# Altium schematic symbol library Driver_LED.SchLib: 84 symbols (part 1 of 2)
Pins are listed as number, name and electrical type; pins without a type are passive.

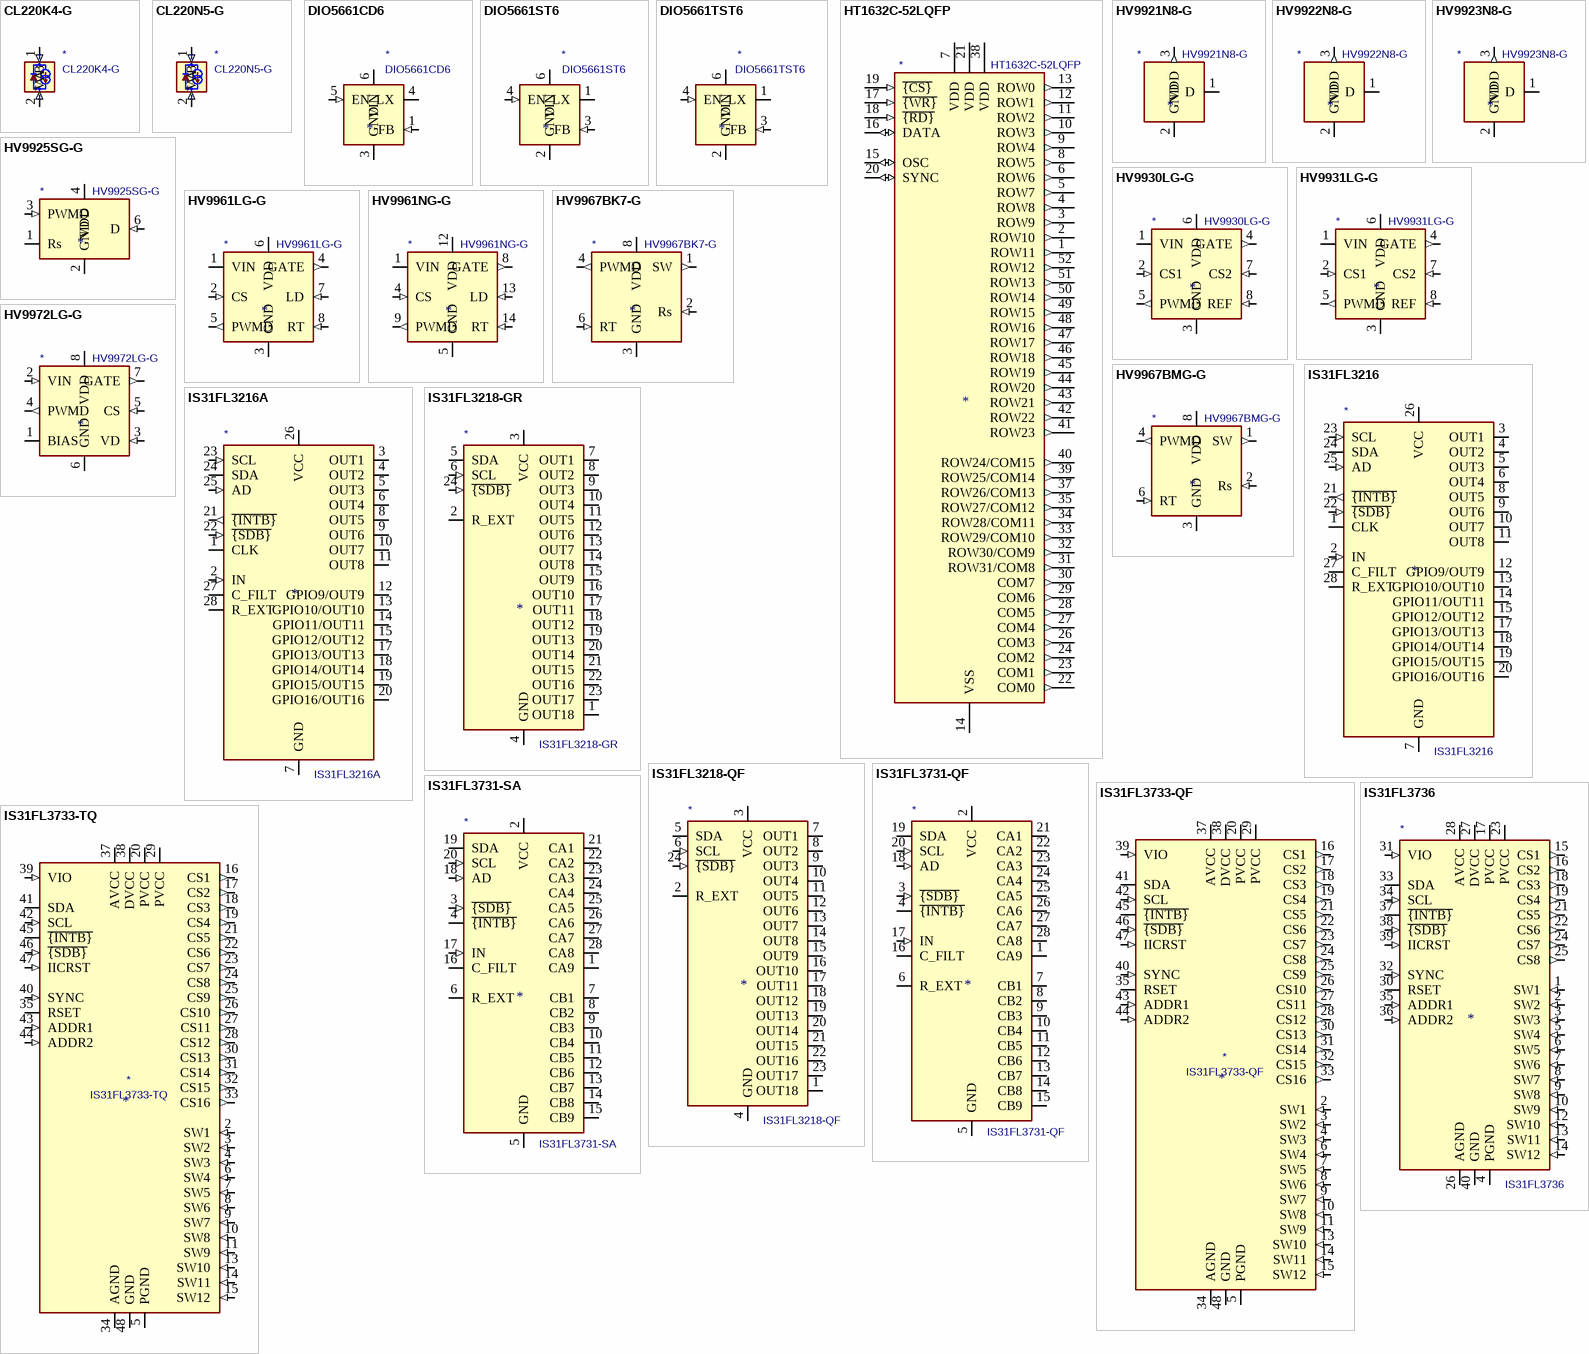
[diagram p0: symbols CL220K4-G to IS31FL3736]

## CL220K4-G
designator *  value CL220K4-G
ki_keywords: Constant Current LED Driver IC; ki_description: Temperature Compensated Constant Current LED IC, D-PAK; ki_fp_filters: TO?252*; Footprint: Package_TO_SOT_SMD:TO-252-2; Supplier: http://ww1.microchip.com/downloads/en/DeviceDoc/20005413A.pdf
footprint TO-252-2
pins: 1 VA (in), 2 VB (in), 3 NC (in) hidden

## CL220N5-G
designator *  value CL220N5-G
ki_keywords: Constant Current LED Driver IC; ki_description: Temperature Compensated Constant Current LED IC, TO-220; ki_fp_filters: TO?220*; Footprint: Package_TO_SOT_THT:TO-220-3_Vertical; Supplier: http://ww1.microchip.com/downloads/en/DeviceDoc/20005413A.pdf
footprint TO-220-3_Vertical
pins: 1 VA (in), 2 VB (in)

## DIO5661CD6
designator *  value DIO5661CD6
ki_keywords: LED driver single; ki_description: 37V Step-up LED driver with PWM, 2.7-5.5Vin, 1.3A Iout max, DFN-6; ki_fp_filters: DFN*1EP*2x2mm*P0.65mm*; Footprint: Package_DFN_QFN:DFN-6-1EP_2x2mm_P0.65mm_EP1x1.6mm; Supplier: http://www.dioo.com/uploads/product/20190311/e6c7f30c0fbe92fbfa6965c8ef1c5b19.pdf
footprint DFN-6-1EP_2x2mm_P0.65mm_EP1x1.6mm
pins: 1 FB (in), 2 (in) hidden, 3 GND (power), 4 LX (oc), 5 EN (in), 6 VIN (power), 7 GND hidden

## DIO5661ST6
designator *  value DIO5661ST6
ki_keywords: LED driver single; ki_description: 37V Step-up LED driver with PWM, 2.7-5.5Vin, 1.3A Iout max, SOT23-6; ki_fp_filters: SOT?23*; Footprint: Package_TO_SOT_SMD:SOT-23-6; Supplier: http://www.dioo.com/uploads/product/20190311/e6c7f30c0fbe92fbfa6965c8ef1c5b19.pdf
footprint SOT-23-6
pins: 1 LX (oc), 2 GND (power), 3 FB (in), 4 EN (in), 5 (in) hidden, 6 VIN (power)

## DIO5661TST6
designator *  value DIO5661TST6
ki_keywords: LED driver single; ki_description: 37V Step-up LED driver with PWM, 2.7-5.5Vin, 1.3A Iout max, TSOT23-6; ki_fp_filters: TSOT?23*; Footprint: Package_TO_SOT_SMD:TSOT-23-6; Supplier: http://www.dioo.com/uploads/product/20190311/e6c7f30c0fbe92fbfa6965c8ef1c5b19.pdf
footprint TSOT-23-6
pins: 1 LX (oc), 2 GND (power), 3 FB (in), 4 EN (in), 5 (in) hidden, 6 VIN (power)

## HT1632C-52LQFP
designator *  value HT1632C-52LQFP
ki_keywords: LED Matrix Driver; ki_description: LED Matrix Driver, 32×8 or 24×16, 52-LQFP; ki_fp_filters: LQFP*14x14mm*P1mm*; Footprint: Package_QFP:LQFP-52_14x14mm_P1mm; Supplier: http://www.holtek.com/documents/10179/116711/HT1632Cv170.pdf
footprint LQFP-52_14x14mm_P1mm
pins: 1 ROW11 (out), 2 ROW10 (out), 3 ROW9 (out), 4 ROW8 (out), 5 ROW7 (out), 6 ROW6 (out), 7 VDD (power), 8 ROW5 (out), 9 ROW4 (out), 10 ROW3 (out), 11 ROW2 (out), 12 ROW1 (out), 13 ROW0 (out), 14 VSS (power), 15 OSC (io), 16 DATA (io), 17 ~{{WR}} (in), 18 ~{{RD}} (in), 19 ~{{CS}} (in), 20 SYNC (io), 21 VDD (power), 22 COM0 (out), 23 COM1 (out), 24 COM2 (out), 25 VSS hidden, 26 COM3 (out), 27 COM4 (out), 28 COM5 (out), 29 COM6 (out), 30 COM7 (out), 31 ROW31/COM8 (out), 32 ROW30/COM9 (out), 33 ROW29/COM10 (out), 34 ROW28/COM11 (out), 35 ROW27/COM12 (out), 36 VSS hidden, 37 ROW26/COM13 (out), 38 VDD (power), 39 ROW25/COM14 (out), 40 ROW24/COM15 (out), 41 ROW23 (out), 42 ROW22 (out), 43 ROW21 (out), 44 ROW20 (out), 45 ROW19 (out), 46 ROW18 (out), 47 ROW17 (out), 48 ROW16 (out), 49 ROW15 (out), 50 ROW14 (out), 51 ROW13 (out), 52 ROW12 (out)

## HV9921N8-G
designator *  value HV9921N8-G
ki_keywords: CC LED Driver High Voltage; ki_description: 3pin Constant Current 20mA LED Driver, SOT89; ki_fp_filters: SOT?89*; Footprint: Package_TO_SOT_SMD:SOT-89-3; Supplier: http://ww1.microchip.com/downloads/en/DeviceDoc/20005311A.pdf
footprint SOT-89-3
pins: 1 D, 2 GND (power), 3 VDD (out)

## HV9922N8-G
designator *  value HV9922N8-G
ki_keywords: CC LED Driver High Voltage; ki_description: 3pin Constant Current 50mA LED Driver, SOT89; ki_fp_filters: SOT?89*; Footprint: Package_TO_SOT_SMD:SOT-89-3; Supplier: http://ww1.microchip.com/downloads/en/DeviceDoc/20005311A.pdf
footprint SOT-89-3
pins: 1 D, 2 GND (power), 3 VDD (out)

## HV9923N8-G
designator *  value HV9923N8-G
ki_keywords: CC LED Driver High Voltage; ki_description: 3pin Constant Current 30mA LED Driver, SOT89; ki_fp_filters: SOT?89*; Footprint: Package_TO_SOT_SMD:SOT-89-3; Supplier: http://ww1.microchip.com/downloads/en/DeviceDoc/20005311A.pdf
footprint SOT-89-3
pins: 1 D, 2 GND (power), 3 VDD (out)

## HV9925SG-G
designator *  value HV9925SG-G
ki_keywords: Programmable Current LED Lamp Driver High Voltage; ki_description: Programmable Current LED Lamp Driver, SO8 w/Heat Slug; ki_fp_filters: SOIC*3.9x4.9mm*P1.27mm*; Footprint: Package_SO:SOIC-8_3.9x4.9mm_P1.27mm; Supplier: http://ww1.microchip.com/downloads/en/DeviceDoc/hv9925.pdf
footprint SOIC-8_3.9x4.9mm_P1.27mm
pins: 1 Rs, 2 GND (power), 3 PWMD (in), 4 VDD (power), 5 NC (in) hidden, 6 D (in), 7 D (in) hidden, 8 D (in) hidden

## HV9930LG-G
designator *  value HV9930LG-G
ki_keywords: Buck-Boost LED Lamp Driver High Voltage; ki_description: Boost-Buck LED Lamp Driver, SO8; ki_fp_filters: SOIC*3.9x4.9mm*P1.27mm*; Footprint: Package_SO:SOIC-8_3.9x4.9mm_P1.27mm; Supplier: http://ww1.microchip.com/downloads/en/DeviceDoc/hv9930.pdf
footprint SOIC-8_3.9x4.9mm_P1.27mm
pins: 1 VIN (power), 2 CS1 (in), 3 GND (power), 4 GATE (out), 5 PWMD (out), 6 VDD (power), 7 CS2 (in), 8 REF (in)

## HV9931LG-G
designator *  value HV9931LG-G
ki_keywords: Buck-Boost LED Lamp Driver High Voltage PFC; ki_description: PFC Boost-Buck LED Lamp Driver, SO8; ki_fp_filters: SOIC*3.9x4.9mm*P1.27mm*; Footprint: Package_SO:SOIC-8_3.9x4.9mm_P1.27mm; Supplier: http://ww1.microchip.com/downloads/en/DeviceDoc/hv9931.pdf
footprint SOIC-8_3.9x4.9mm_P1.27mm
pins: 1 VIN (power), 2 CS1 (in), 3 GND (power), 4 GATE (out), 5 PWMD (out), 6 VDD (power), 7 CS2 (in), 8 REF (in)

## HV9961LG-G
designator *  value HV9961LG-G
ki_keywords: Buck LED Lamp Driver High Voltage Average CC; ki_description: Buck LED Lamp Driver Average-Mode Constant Current, SO8; ki_fp_filters: SOIC*3.9x4.9mm*P1.27mm*; Footprint: Package_SO:SOIC-8_3.9x4.9mm_P1.27mm; Supplier: http://ww1.microchip.com/downloads/en/DeviceDoc/20005588A.pdf
footprint SOIC-8_3.9x4.9mm_P1.27mm
pins: 1 VIN (power), 2 CS (in), 3 GND (power), 4 GATE (out), 5 PWMD (out), 6 VDD (power), 7 LD (in), 8 RT (in)

## HV9961NG-G
designator *  value HV9961NG-G
ki_keywords: Buck LED Lamp Driver High Voltage Average CC; ki_description: Buck LED Lamp Driver Average-Mode Constant Current, SO16; ki_fp_filters: SOIC*3.9x9.9mm*P1.27mm*; Footprint: Package_SO:SOIC-16_3.9x9.9mm_P1.27mm; Supplier: http://ww1.microchip.com/downloads/en/DeviceDoc/20005588A.pdf
footprint SOIC-16_3.9x9.9mm_P1.27mm
pins: 1 VIN (power), 2 NC (in) hidden, 3 NC (in) hidden, 4 CS (in), 5 GND (power), 6 NC (in) hidden, 7 NC (in) hidden, 8 GATE (out), 9 PWMD (out), 10 NC (in) hidden, 11 NC (in) hidden, 12 VDD (power), 13 LD (in), 14 RT (in), 15 NC (in) hidden, 16 NC (in) hidden

## HV9967BK7-G
designator *  value HV9967BK7-G
ki_keywords: Buck LED Lamp Driver Low Voltage Average CC; ki_description: Buck LED Lamp Driver Average-Mode Constant Current, DFN8 (3x3mm); ki_fp_filters: DFN*3x3mm*P0.65mm*EP1.55x2.4mm*; Footprint: Package_DFN_QFN:DFN-8-1EP_3x3mm_P0.65mm_EP1.55x2.4mm; Supplier: http://ww1.microchip.com/downloads/en/DeviceDoc/hv9967b.pdf
footprint DFN-8-1EP_3x3mm_P0.65mm_EP1.55x2.4mm
pins: 1 SW (out), 2 Rs (in), 3 GND (power), 4 PWMD (out), 6 RT (in), 7 GND hidden, 8 VDD (power), 9 GND hidden

## HV9967BMG-G
designator *  value HV9967BMG-G
ki_keywords: Buck LED Lamp Driver Low Voltage Average CC; ki_description: Buck LED Lamp Driver Average-Mode Constant Current, MSOP8; ki_fp_filters: MSOP*3x3mm*P0.65mm*; Footprint: Package_SO:MSOP-8_3x3mm_P0.65mm; Supplier: http://ww1.microchip.com/downloads/en/devicedoc/hv9967b.pdf
footprint MSOP-8_3x3mm_P0.65mm
pins: 1 SW (out), 2 Rs (in), 3 GND (power), 4 PWMD (out), 6 RT (in), 7 GND hidden, 8 VDD (power)

## HV9972LG-G
designator *  value HV9972LG-G
ki_keywords: Isolated LED Lamp Driver High Voltage CC; ki_description: Isolated LED Lamp Driver Constant Current, SO8; ki_fp_filters: SOIC*3.9x4.9mm*P1.27mm*; Footprint: Package_SO:SOIC-8_3.9x4.9mm_P1.27mm; Supplier: https://www.mouser.com/ds/2/268/HV9972-272498-1181261.pdf
footprint SOIC-8_3.9x4.9mm_P1.27mm
pins: 1 BIAS, 2 VIN (in), 3 VD (in), 4 PWMD (out), 5 CS (in), 6 GND (power), 7 GATE (out), 8 VDD (power)

## IS31FL3216
designator *  value IS31FL3216
ki_keywords: led pwm audio; ki_description: 16 channel LED controller with audio modulation mode, QFN-28; ki_fp_filters: QFN*1EP*4x4mm*P0.4mm*; Footprint: Package_DFN_QFN:QFN-28-1EP_4x4mm_P0.4mm_EP2.4x2.4mm; Supplier: http://www.issi.com/WW/pdf/IS31FL3216.pdf
footprint QFN-28-1EP_4x4mm_P0.4mm_EP2.4x2.4mm
pins: 1 CLK (io), 2 IN (in), 3 OUT1 (oc), 4 OUT2 (oc), 5 OUT3 (oc), 6 OUT4 (oc), 7 GND (power), 8 OUT5 (oc), 9 OUT6 (oc), 10 OUT7 (oc), 11 OUT8 (oc), 12 GPIO9/OUT9 (io), 13 GPIO10/OUT10 (io), 14 GPIO11/OUT11 (io), 15 GPIO12/OUT12 (io), 16 GND hidden, 17 GPIO13/OUT13 (io), 18 GPIO14/OUT14 (io), 19 GPIO15/OUT15 (io), 20 GPIO16/OUT16 (io), 21 ~{{INTB}} (out), 22 ~{{SDB}} (in), 23 SCL (in), 24 SDA (io), 25 AD (in), 26 VCC (power), 27 C_FILT, 28 R_EXT, 29 GND hidden

## IS31FL3216A
designator *  value IS31FL3216A
ki_keywords: led pwm audio; ki_description: 16 channel LED controller with audio modulation mode, QFN-28; ki_fp_filters: QFN*1EP*4x4mm*P0.4mm*; Footprint: Package_DFN_QFN:QFN-28-1EP_4x4mm_P0.4mm_EP2.4x2.4mm; Supplier: http://www.issi.com/WW/pdf/IS31FL3216A.pdf
footprint QFN-28-1EP_4x4mm_P0.4mm_EP2.4x2.4mm
pins: 1 CLK (io), 2 IN (in), 3 OUT1 (oc), 4 OUT2 (oc), 5 OUT3 (oc), 6 OUT4 (oc), 7 GND (power), 8 OUT5 (oc), 9 OUT6 (oc), 10 OUT7 (oc), 11 OUT8 (oc), 12 GPIO9/OUT9 (io), 13 GPIO10/OUT10 (io), 14 GPIO11/OUT11 (io), 15 GPIO12/OUT12 (io), 16 GND hidden, 17 GPIO13/OUT13 (io), 18 GPIO14/OUT14 (io), 19 GPIO15/OUT15 (io), 20 GPIO16/OUT16 (io), 21 ~{{INTB}} (out), 22 ~{{SDB}} (in), 23 SCL (in), 24 SDA (io), 25 AD (in), 26 VCC (power), 27 C_FILT, 28 R_EXT, 29 GND hidden

## IS31FL3218-GR
designator *  value IS31FL3218-GR
ki_keywords: led matrix pwm; ki_description: 18 LED matrix driver with 8-bit PWM, SOP-24; ki_fp_filters: SOP*7.5x15.4mm*P1.27mm*; Footprint: Package_SO:SOP-24_7.5x15.4mm_P1.27mm; Supplier: http://www.issi.com/WW/pdf/31FL3218.pdf
footprint SOP-24_7.5x15.4mm_P1.27mm
pins: 1 OUT18 (oc), 2 R_EXT, 3 VCC (power), 4 GND (power), 5 SDA (io), 6 SCL (in), 7 OUT1 (oc), 8 OUT2 (oc), 9 OUT3 (oc), 10 OUT4 (oc), 11 OUT5 (oc), 12 OUT6 (oc), 13 OUT7 (oc), 14 OUT8 (oc), 15 OUT9 (oc), 16 OUT10 (oc), 17 OUT11 (oc), 18 OUT12 (oc), 19 OUT13 (oc), 20 OUT14 (oc), 21 OUT15 (oc), 22 OUT16 (oc), 23 OUT17 (oc), 24 ~{{SDB}} (in)

## IS31FL3218-QF
designator *  value IS31FL3218-QF
ki_keywords: led matrix pwm; ki_description: 18 LED matrix driver with 8-bit PWM, QFN-24; ki_fp_filters: QFN*1EP*4x4mm*P0.5mm*; Footprint: Package_DFN_QFN:QFN-24-1EP_4x4mm_P0.5mm_EP2.7x2.7mm; Supplier: http://www.issi.com/WW/pdf/31FL3218.pdf
footprint QFN-24-1EP_4x4mm_P0.5mm_EP2.7x2.7mm
pins: 1 OUT18 (oc), 2 R_EXT, 3 VCC (power), 4 GND (power), 5 SDA (io), 6 SCL (in), 7 OUT1 (oc), 8 OUT2 (oc), 9 OUT3 (oc), 10 OUT4 (oc), 11 OUT5 (oc), 12 OUT6 (oc), 13 OUT7 (oc), 14 OUT8 (oc), 15 OUT9 (oc), 16 OUT10 (oc), 17 OUT11 (oc), 18 OUT12 (oc), 19 OUT13 (oc), 20 OUT14 (oc), 21 OUT15 (oc), 22 OUT16 (oc), 23 OUT17 (oc), 24 ~{{SDB}} (in), 25 GND hidden

## IS31FL3731-QF
designator *  value IS31FL3731-QF
ki_keywords: led matrix pwm; ki_description: 9x16 LED matrix driver with 8-bit PWM and breathing, QFN-28; ki_fp_filters: QFN*1EP*4x4mm*P0.4mm*; Footprint: Package_DFN_QFN:QFN-28-1EP_4x4mm_P0.4mm_EP2.3x2.3mm; Supplier: http://www.issi.com/WW/pdf/31FL3731.pdf
footprint QFN-28-1EP_4x4mm_P0.4mm_EP2.3x2.3mm
pins: 1 CA9 (io), 2 VCC (power), 3 ~{{SDB}} (in), 4 ~{{INTB}} (oc), 5 GND (power), 6 R_EXT, 7 CB1 (io), 8 CB2 (io), 9 CB3 (io), 10 CB4 (io), 11 CB5 (io), 12 CB6 (io), 13 CB7 (io), 14 CB8 (io), 15 CB9 (io), 16 C_FILT, 17 IN (in), 18 AD (in), 19 SDA (io), 20 SCL (in), 21 CA1 (io), 22 CA2 (io), 23 CA3 (io), 24 CA4 (io), 25 CA5 (io), 26 CA6 (io), 27 CA7 (io), 28 CA8 (io), 29 GND hidden

## IS31FL3731-SA
designator *  value IS31FL3731-SA
ki_keywords: led matrix pwm; ki_description: 9x16 LED matrix driver with 8-bit PWM and breathing, SSOP-28; ki_fp_filters: SSOP*5.3x10.2mm*P0.65mm*; Footprint: Package_SO:SSOP-28_5.3x10.2mm_P0.65mm; Supplier: http://www.issi.com/WW/pdf/31FL3731.pdf
footprint SSOP-28_5.3x10.2mm_P0.65mm
pins: 1 CA9 (io), 2 VCC (power), 3 ~{{SDB}} (in), 4 ~{{INTB}} (oc), 5 GND (power), 6 R_EXT, 7 CB1 (io), 8 CB2 (io), 9 CB3 (io), 10 CB4 (io), 11 CB5 (io), 12 CB6 (io), 13 CB7 (io), 14 CB8 (io), 15 CB9 (io), 16 C_FILT, 17 IN (in), 18 AD (in), 19 SDA (io), 20 SCL (in), 21 CA1 (io), 22 CA2 (io), 23 CA3 (io), 24 CA4 (io), 25 CA5 (io), 26 CA6 (io), 27 CA7 (io), 28 CA8 (io)

## IS31FL3733-QF
designator *  value IS31FL3733-QF
ki_keywords: led matrix pwm; ki_description: 12x16 LED matrix driver with 8-bit PWM and breathing, QFN-48; ki_fp_filters: QFN*1EP*6x6mm*P0.4mm*; Footprint: Package_DFN_QFN:QFN-48-1EP_6x6mm_P0.4mm_EP4.2x4.2mm; Supplier: http://www.issi.com/WW/pdf/IS31FL3733.pdf
footprint QFN-48-1EP_6x6mm_P0.4mm_EP4.2x4.2mm
pins: 1 NC (in) hidden, 2 SW1 (in), 3 SW2 (in), 4 SW3 (in), 5 PGND (power), 6 SW4 (in), 7 SW5 (in), 8 SW6 (in), 9 SW7 (in), 10 SW8 (in), 11 SW9 (in), 12 PGND hidden, 13 SW10 (in), 14 SW11 (in), 15 SW12 (in), 16 CS1 (out), 17 CS2 (out), 18 CS3 (out), 19 CS4 (out), 20 PVCC (power), 21 CS5 (out), 22 CS6 (out), 23 CS7 (out), 24 CS8 (out), 25 CS9 (out), 26 CS10 (out), 27 CS11 (out), 28 CS12 (out), 29 PVCC (power), 30 CS13 (out), 31 CS14 (out), 32 CS15 (out), 33 CS16 (out), 34 AGND (power), 35 RSET, 36 NC (in) hidden, 37 AVCC (power), 38 DVCC (power), 39 VIO (in), 40 SYNC (in), 41 SDA (io), 42 SCL (in), 43 ADDR1 (in), 44 ADDR2 (in), 45 ~{{INTB}} (oc), 46 ~{{SDB}} (in), 47 IICRST (in), 48 GND (power), 49 GND hidden

## IS31FL3733-TQ
designator *  value IS31FL3733-TQ
ki_keywords: led matrix pwm; ki_description: 12x16 LED matrix driver with 8-bit PWM and breathing, TQFP-48; ki_fp_filters: TQFP*1EP*7x7mm*P0.5mm*; Footprint: Package_QFP:TQFP-48-1EP_7x7mm_P0.5mm_EP5x5mm; Supplier: http://www.issi.com/WW/pdf/IS31FL3733.pdf
footprint TQFP-48-1EP_7x7mm_P0.5mm_EP5x5mm
pins: 1 NC (in) hidden, 2 SW1 (in), 3 SW2 (in), 4 SW3 (in), 5 PGND (power), 6 SW4 (in), 7 SW5 (in), 8 SW6 (in), 9 SW7 (in), 10 SW8 (in), 11 SW9 (in), 12 PGND hidden, 13 SW10 (in), 14 SW11 (in), 15 SW12 (in), 16 CS1 (out), 17 CS2 (out), 18 CS3 (out), 19 CS4 (out), 20 PVCC (power), 21 CS5 (out), 22 CS6 (out), 23 CS7 (out), 24 CS8 (out), 25 CS9 (out), 26 CS10 (out), 27 CS11 (out), 28 CS12 (out), 29 PVCC (power), 30 CS13 (out), 31 CS14 (out), 32 CS15 (out), 33 CS16 (out), 34 AGND (power), 35 RSET, 36 NC (in) hidden, 37 AVCC (power), 38 DVCC (power), 39 VIO (in), 40 SYNC (in), 41 SDA (io), 42 SCL (in), 43 ADDR1 (in), 44 ADDR2 (in), 45 ~{{INTB}} (oc), 46 ~{{SDB}} (in), 47 IICRST (in), 48 GND (power), 49 GND hidden

## IS31FL3736
designator *  value IS31FL3736
ki_keywords: led matrix pwm; ki_description: 12x8 LED matrix driver with 8-bit PWM and breathing, QFN-40; ki_fp_filters: QFN*1EP*5x5mm*P0.4mm*; Footprint: Package_DFN_QFN:QFN-40-1EP_5x5mm_P0.4mm_EP3.8x3.8mm; Supplier: http://www.issi.com/WW/pdf/31FL3736.pdf
footprint QFN-40-1EP_5x5mm_P0.4mm_EP3.8x3.8mm
pins: 1 SW1 (in), 2 SW2 (in), 3 SW3 (in), 4 PGND (power), 5 SW4 (in), 6 SW5 (in), 7 SW6 (in), 8 SW7 (in), 9 SW8 (in), 10 SW9 (in), 11 PGND hidden, 12 SW10 (in), 13 SW11 (in), 14 SW12 (in), 15 CS1 (out), 16 CS2 (out), 17 PVCC (power), 18 CS3 (out), 19 CS4 (out), 20 NC (in) hidden, 21 CS5 (out), 22 CS6 (out), 23 PVCC (power), 24 CS7 (out), 25 CS8 (out), 26 AGND (power), 27 DVCC (power), 28 AVCC (power), 29 NC (in) hidden, 30 RSET, 31 VIO (in), 32 SYNC (in), 33 SDA (io), 34 SCL (in), 35 ADDR1 (in), 36 ADDR2 (in), 37 ~{{INTB}} (oc), 38 ~{{SDB}} (in), 39 IICRST (in), 40 GND (power), 41 GND hidden

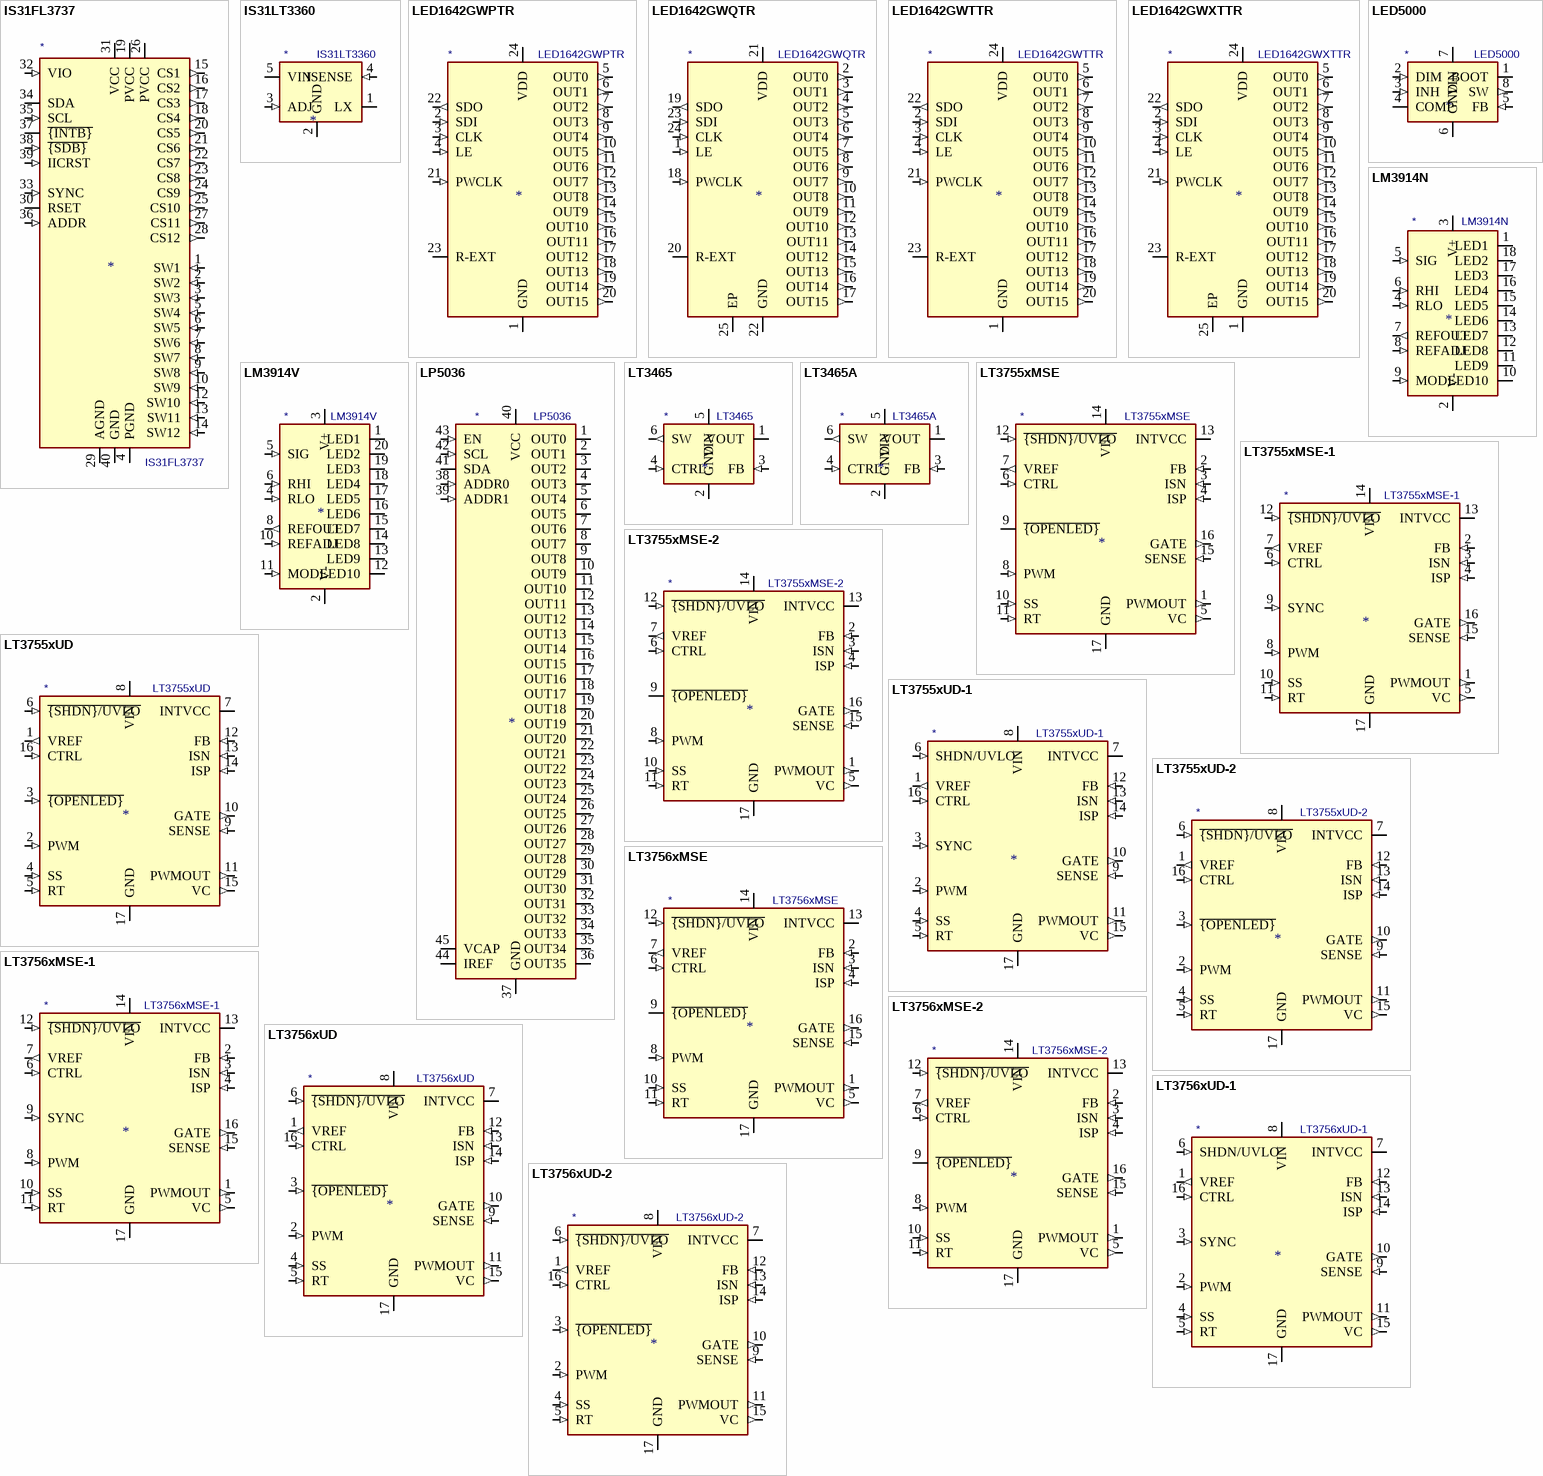
[diagram p1: symbols IS31FL3737 to LT3756xUD-2]

## IS31FL3737
designator *  value IS31FL3737
ki_keywords: led matrix pwm; ki_description: 12x12 LED matrix driver with 8-bit PWM and breathing, QFN-40; ki_fp_filters: QFN*1EP*5x5mm*P0.4mm*; Footprint: Package_DFN_QFN:QFN-40-1EP_5x5mm_P0.4mm_EP3.8x3.8mm; Supplier: http://www.issi.com/WW/pdf/31FL3737.pdf
footprint QFN-40-1EP_5x5mm_P0.4mm_EP3.8x3.8mm
pins: 1 SW1 (in), 2 SW2 (in), 3 SW3 (in), 4 PGND (power), 5 SW4 (in), 6 SW5 (in), 7 SW6 (in), 8 SW7 (in), 9 SW8 (in), 10 SW9 (in), 11 PGND hidden, 12 SW10 (in), 13 SW11 (in), 14 SW12 (in), 15 CS1 (out), 16 CS2 (out), 17 CS3 (out), 18 CS4 (out), 19 PVCC (power), 20 CS5 (out), 21 CS6 (out), 22 CS7 (out), 23 CS8 (out), 24 CS9 (out), 25 CS10 (out), 26 PVCC (power), 27 CS11 (out), 28 CS12 (out), 29 AGND (power), 30 RSET, 31 VCC (power), 32 VIO (in), 33 SYNC (in), 34 SDA (io), 35 SCL (in), 36 ADDR (in), 37 ~{{INTB}} (oc), 38 ~{{SDB}} (in), 39 IICRST (in), 40 GND (power), 41 GND hidden

## IS31LT3360
designator *  value IS31LT3360
ki_keywords: Switching LED driver; ki_description: Constant current  LED driver, internal switch, up to 40V/1.2A, SOT-89-5; ki_fp_filters: SOT?89*; Footprint: Package_TO_SOT_SMD:SOT-89-5; Supplier: http://www.issi.com/WW/pdf/31LT3360.pdf
footprint SOT-89-5
pins: 1 LX (oc), 2 GND (power), 3 ADJ (in), 4 ISENSE (in), 5 VIN (power)

## LED1642GWPTR
designator *  value LED1642GWPTR
ki_keywords: PWM LED driver error detection brightness QSOP-24; ki_description: 16-channel LED driver with error detection, current gain control and 12/16 bit PWM brightness control, QSOP-24; ki_fp_filters: QSOP*3.9x8.7mm*P0.635mm*; Footprint: Package_SO:QSOP-24_3.9x8.7mm_P0.635mm; Supplier: https://www.st.com/resource/en/datasheet/led1642gw.pdf
footprint QSOP-24_3.9x8.7mm_P0.635mm
pins: 1 GND (power), 2 SDI (in), 3 CLK (in), 4 LE (in), 5 OUT0 (out), 6 OUT1 (out), 7 OUT2 (out), 8 OUT3 (out), 9 OUT4 (out), 10 OUT5 (out), 11 OUT6 (out), 12 OUT7 (out), 13 OUT8 (out), 14 OUT9 (out), 15 OUT10 (out), 16 OUT11 (out), 17 OUT12 (out), 18 OUT13 (out), 19 OUT14 (out), 20 OUT15 (out), 21 PWCLK (in), 22 SDO (out), 23 R-EXT, 24 VDD (power)

## LED1642GWQTR
designator *  value LED1642GWQTR
ki_keywords: PWM LED driver error detection brightness QFN-24; ki_description: 16-channel LED driver with error detection, current gain control and 12/16 bit PWM brightness control, QFN-24; ki_fp_filters: QFN*1EP*4x4mm*P0.5mm*; Footprint: Package_DFN_QFN:QFN-24-1EP_4x4mm_P0.5mm_EP2.15x2.15mm; Supplier: https://www.st.com/resource/en/datasheet/led1642gw.pdf
footprint QFN-24-1EP_4x4mm_P0.5mm_EP2.15x2.15mm
pins: 1 LE (in), 2 OUT0 (out), 3 OUT1 (out), 4 OUT2 (out), 5 OUT3 (out), 6 OUT4 (out), 7 OUT5 (out), 8 OUT6 (out), 9 OUT7 (out), 10 OUT8 (out), 11 OUT9 (out), 12 OUT10 (out), 13 OUT11 (out), 14 OUT12 (out), 15 OUT13 (out), 16 OUT14 (out), 17 OUT15 (out), 18 PWCLK (in), 19 SDO (out), 20 R-EXT, 21 VDD (power), 22 GND (power), 23 SDI (in), 24 CLK (in), 25 EP

## LED1642GWTTR
designator *  value LED1642GWTTR
ki_keywords: PWM LED driver error detection brightness TSSOP-24; ki_description: 16-channel LED driver with error detection, current gain control and 12/16 bit PWM brightness control, TSSOP-24; ki_fp_filters: TSSOP*4.4x7.8mm*P0.65mm*; Footprint: Package_SO:TSSOP-24_4.4x7.8mm_P0.65mm; Supplier: https://www.st.com/resource/en/datasheet/led1642gw.pdf
footprint TSSOP-24_4.4x7.8mm_P0.65mm
pins: 1 GND (power), 2 SDI (in), 3 CLK (in), 4 LE (in), 5 OUT0 (out), 6 OUT1 (out), 7 OUT2 (out), 8 OUT3 (out), 9 OUT4 (out), 10 OUT5 (out), 11 OUT6 (out), 12 OUT7 (out), 13 OUT8 (out), 14 OUT9 (out), 15 OUT10 (out), 16 OUT11 (out), 17 OUT12 (out), 18 OUT13 (out), 19 OUT14 (out), 20 OUT15 (out), 21 PWCLK (in), 22 SDO (out), 23 R-EXT, 24 VDD (power)

## LED1642GWXTTR
designator *  value LED1642GWXTTR
ki_keywords: PWM LED driver error detection brightness TSSOP-24; ki_description: 16-channel LED driver with error detection, current gain control and 12/16 bit PWM brightness control, TSSOP-24; ki_fp_filters: TSSOP*1EP*4.4x7.8mm*P0.65mm*; Footprint: Package_SO:TSSOP-24-1EP_4.4x7.8mm_P0.65mm_EP3.2x5mm; Supplier: https://www.st.com/resource/en/datasheet/led1642gw.pdf
footprint TSSOP-24-1EP_4.4x7.8mm_P0.65mm_EP3.2x5mm
pins: 1 GND (power), 2 SDI (in), 3 CLK (in), 4 LE (in), 5 OUT0 (out), 6 OUT1 (out), 7 OUT2 (out), 8 OUT3 (out), 9 OUT4 (out), 10 OUT5 (out), 11 OUT6 (out), 12 OUT7 (out), 13 OUT8 (out), 14 OUT9 (out), 15 OUT10 (out), 16 OUT11 (out), 17 OUT12 (out), 18 OUT13 (out), 19 OUT14 (out), 20 OUT15 (out), 21 PWCLK (in), 22 SDO (out), 23 R-EXT, 24 VDD (power), 25 EP

## LED5000
designator *  value LED5000
ki_keywords: LED buck driver; ki_description: 3A monolithic step-down current source with dimming, HSOP-8; ki_fp_filters: HSOP*1EP*3.9x4.9mm*P1.27mm*; Footprint: Package_SO:HSOP-8-1EP_3.9x4.9mm_P1.27mm_EP2.41x3.1mm; Supplier: https://www.st.com/resource/en/datasheet/led5000.pdf
footprint HSOP-8-1EP_3.9x4.9mm_P1.27mm_EP2.41x3.1mm
pins: 1 BOOT, 2 DIM (in), 3 INH (in), 4 COMP, 5 FB (in), 6 GND (power), 7 VIN (power), 8 SW (out), 9 GND hidden

## LM3914N
designator *  value LM3914N
ki_keywords: LED driver bar dot; ki_description: 10 LED Dot/Bar Display Driver, DIP-18; ki_fp_filters: DIP*W7.62mm*; Footprint: Package_DIP:DIP-18_W7.62mm; Supplier: https://www.ti.com/lit/ds/symlink/lm3914.pdf
footprint DIP-18_W7.62mm
pins: 1 LED1 (oc), 2 V- (power), 3 V+ (power), 4 RLO (in), 5 SIG (in), 6 RHI (in), 7 REFOUT (out), 8 REFADJ (in), 9 MODE (in), 10 LED10 (oc), 11 LED9 (oc), 12 LED8 (oc), 13 LED7 (oc), 14 LED6 (oc), 15 LED5 (oc), 16 LED4 (oc), 17 LED3 (oc), 18 LED2 (oc)

## LM3914V
designator *  value LM3914V
ki_keywords: LED driver bar dot; ki_description: 10 LED Dot/Bar Display Driver, PLCC-20; ki_fp_filters: PLCC*; Footprint: Package_LCC:PLCC-20; Supplier: https://www.ti.com/lit/ds/symlink/lm3914.pdf
footprint PLCC-20
pins: 1 LED1 (oc), 2 V- (power), 3 V+ (power), 4 RLO (in), 5 SIG (in), 6 RHI (in), 7 NC (in) hidden, 8 REFOUT (out), 9 NC (in) hidden, 10 REFADJ (in), 11 MODE (in), 12 LED10 (oc), 13 LED9 (oc), 14 LED8 (oc), 15 LED7 (oc), 16 LED6 (oc), 17 LED5 (oc), 18 LED4 (oc), 19 LED3 (oc), 20 LED2 (oc)

## LP5036
designator *  value LP5036
ki_keywords: PWM LED driver I2C; ki_description: 36-Channel 12-Bit PWM Ultra-low Quiescent Current I2C RGB LED Driver; ki_fp_filters: VQFN?46?1EP?5x6mm?P0.4mm?EP2.8x3.8mm*; Footprint: Package_DFN_QFN:VQFN-46-1EP_5x6mm_P0.4mm_EP2.8x3.8mm; Supplier: http://www.ti.com/lit/ds/symlink/lp5036.pdf
footprint VQFN-46-1EP_5x6mm_P0.4mm_EP2.8x3.8mm
pins: 1 OUT0 (power), 2 OUT1 (power), 3 OUT2 (power), 4 OUT3 (power), 5 OUT4 (power), 6 OUT5 (power), 7 OUT6 (power), 8 OUT7 (power), 9 OUT8 (power), 10 OUT9 (power), 11 OUT10 (power), 12 OUT11 (power), 13 OUT12 (power), 14 OUT13 (power), 15 OUT14 (power), 16 OUT15 (power), 17 OUT16 (power), 18 OUT17 (power), 19 OUT18 (power), 20 OUT19 (power), 21 OUT20 (power), 22 OUT21 (power), 23 OUT22 (power), 24 OUT23 (power), 25 OUT24 (power), 26 OUT25 (power), 27 OUT26 (power), 28 OUT27 (power), 29 OUT28 (power), 30 OUT29 (power), 31 OUT30 (power), 32 OUT31 (power), 33 OUT32 (power), 34 OUT33 (power), 35 OUT34 (power), 36 OUT35 (power), 37 GND (power), 38 ADDR0 (in), 39 ADDR1 (in), 40 VCC (power), 41 SDA (io), 42 SCL (in), 43 EN (in), 44 IREF, 45 VCAP, 46 GND hidden, 47 GND hidden

## LT3465
designator *  value LT3465
ki_keywords: Switching LED driver; ki_description: 1.2MHz White LED Drivers with Built-in Schottky, ThinSOT-23-6; ki_fp_filters: TSOT?23*; Footprint: Package_TO_SOT_SMD:TSOT-23-6; Supplier: https://www.analog.com/media/en/technical-documentation/data-sheets/3465fa.pdf
footprint TSOT-23-6
pins: 1 VOUT (power), 2 GND (power), 3 FB (in), 4 CTRL (in), 5 VIN (power), 6 SW (out)

## LT3465A
designator *  value LT3465A
ki_keywords: Switching LED driver; ki_description: 2.4MHz White LED Drivers with Built-in Schottky in ThinSOT; ki_fp_filters: TSOT?23*; Footprint: Package_TO_SOT_SMD:TSOT-23-6; Supplier: https://www.analog.com/media/en/technical-documentation/data-sheets/3465fa.pdf
footprint TSOT-23-6
pins: 1 VOUT (power), 2 GND (power), 3 FB (in), 4 CTRL (in), 5 VIN (power), 6 SW (out)

## LT3755xMSE
designator *  value LT3755xMSE
ki_keywords: Boost Buck Buck-Boost SEPIC Flyback; ki_description: 40 Vin, 75 Vout, DC/DC LED Controllers, Hysteresis Open led Status pin, MSOP-16; ki_fp_filters: MSOP*3x4mm*P0.5mm*; Footprint: Package_SO:MSOP-16-1EP_3x4mm_P0.5mm_EP1.65x2.85mm; Supplier: https://www.analog.com/media/en/technical-documentation/data-sheets/37551fd.pdf
footprint MSOP-16-1EP_3x4mm_P0.5mm_EP1.65x2.85mm
pins: 1 PWMOUT (out), 2 FB (in), 3 ISN (in), 4 ISP (in), 5 VC (out), 6 CTRL (in), 7 VREF (out), 8 PWM (in), 9 ~{{OPENLED}} (oc), 10 SS (in), 11 RT (in), 12 ~{{SHDN}/UVLO} (in), 13 INTVCC (power), 14 VIN (power), 15 SENSE (in), 16 GATE (out), 17 GND (power)

## LT3755xMSE-1
designator *  value LT3755xMSE-1
ki_keywords: Boost Buck Buck-Boost SEPIC Flyback; ki_description: 40 Vin, 75 Vout, DC/DC LED Controllers, Frequency Synchronisation, MSOP-16; ki_fp_filters: MSOP*3x4mm*P0.5mm*; Footprint: Package_SO:MSOP-16-1EP_3x4mm_P0.5mm_EP1.65x2.85mm; Supplier: https://www.analog.com/media/en/technical-documentation/data-sheets/37551fd.pdf
footprint MSOP-16-1EP_3x4mm_P0.5mm_EP1.65x2.85mm
pins: 1 PWMOUT (out), 2 FB (in), 3 ISN (in), 4 ISP (in), 5 VC (out), 6 CTRL (in), 7 VREF (out), 8 PWM (in), 9 SYNC (in), 10 SS (in), 11 RT (in), 12 ~{{SHDN}/UVLO} (in), 13 INTVCC (power), 14 VIN (power), 15 SENSE (in), 16 GATE (out), 17 GND (power)

## LT3755xMSE-2
designator *  value LT3755xMSE-2
ki_keywords: Boost Buck Buck-Boost SEPIC Flyback; ki_description: 40 Vin, 75 Vout, DC/DC LED Controllers, Improved Open Led Status Pin, MSOP-16; ki_fp_filters: MSOP*3x4mm*P0.5mm*; Footprint: Package_SO:MSOP-16-1EP_3x4mm_P0.5mm_EP1.65x2.85mm; Supplier: https://www.analog.com/media/en/technical-documentation/data-sheets/37551fd.pdf
footprint MSOP-16-1EP_3x4mm_P0.5mm_EP1.65x2.85mm
pins: 1 PWMOUT (out), 2 FB (in), 3 ISN (in), 4 ISP (in), 5 VC (out), 6 CTRL (in), 7 VREF (out), 8 PWM (in), 9 ~{{OPENLED}} (oc), 10 SS (in), 11 RT (in), 12 ~{{SHDN}/UVLO} (in), 13 INTVCC (power), 14 VIN (power), 15 SENSE (in), 16 GATE (out), 17 GND (power)

## LT3755xUD
designator *  value LT3755xUD
ki_keywords: Boost Buck Buck-Boost SEPIC Flyback; ki_description: 40 Vin, 75 Vout, DC/DC LED Controller, Hysteresis Open led Status pins, QFN-16; ki_fp_filters: QFN*1EP*3x3mm*P0.5mm*; Footprint: Package_DFN_QFN:QFN-16-1EP_3x3mm_P0.5mm_EP1.45x1.45mm; Supplier: https://www.analog.com/media/en/technical-documentation/data-sheets/37551fd.pdf
footprint QFN-16-1EP_3x3mm_P0.5mm_EP1.45x1.45mm
pins: 1 VREF (out), 2 PWM (in), 3 ~{{OPENLED}} (in), 4 SS (in), 5 RT (in), 6 ~{{SHDN}/UVLO} (in), 7 INTVCC (power), 8 VIN (power), 9 SENSE (in), 10 GATE (out), 11 PWMOUT (out), 12 FB (in), 13 ISN (in), 14 ISP (in), 15 VC (out), 16 CTRL (in), 17 GND (power)

## LT3755xUD-1
designator *  value LT3755xUD-1
ki_keywords: Boost Buck Buck-Boost SEPIC Flyback; ki_description: 40 Vin, 75 Vout, DC/DC LED Controllers, Frequency Synchronisation, QFN-16; ki_fp_filters: QFN*1EP*3x3mm*P0.5mm*; Footprint: Package_DFN_QFN:QFN-16-1EP_3x3mm_P0.5mm_EP1.45x1.45mm; Supplier: https://www.analog.com/media/en/technical-documentation/data-sheets/37551fd.pdf
footprint QFN-16-1EP_3x3mm_P0.5mm_EP1.45x1.45mm
pins: 1 VREF (out), 2 PWM (in), 3 SYNC (in), 4 SS (in), 5 RT (in), 6 SHDN/UVLO (in), 7 INTVCC (power), 8 VIN (power), 9 SENSE (in), 10 GATE (out), 11 PWMOUT (out), 12 FB (in), 13 ISN (in), 14 ISP (in), 15 VC (out), 16 CTRL (in), 17 GND (power)

## LT3755xUD-2
designator *  value LT3755xUD-2
ki_keywords: Boost Buck Buck-Boost SEPIC Flyback; ki_description: 40 Vin, 75 Vout, DC/DC LED Controllers, Improved Open led Status pin, QFN-16; ki_fp_filters: QFN*1EP*3x3mm*P0.5mm*; Footprint: Package_DFN_QFN:QFN-16-1EP_3x3mm_P0.5mm_EP1.45x1.45mm; Supplier: https://www.analog.com/media/en/technical-documentation/data-sheets/37551fd.pdf
footprint QFN-16-1EP_3x3mm_P0.5mm_EP1.45x1.45mm
pins: 1 VREF (out), 2 PWM (in), 3 ~{{OPENLED}} (in), 4 SS (in), 5 RT (in), 6 ~{{SHDN}/UVLO} (in), 7 INTVCC (power), 8 VIN (power), 9 SENSE (in), 10 GATE (out), 11 PWMOUT (out), 12 FB (in), 13 ISN (in), 14 ISP (in), 15 VC (out), 16 CTRL (in), 17 GND (power)

## LT3756xMSE
designator *  value LT3756xMSE
ki_keywords: Boost Buck Buck-Boost SEPIC Flyback; ki_description: 100 Vin, 100 Vout, DC/DC LED Controllers, Hysteresis Open led Status pin, MSOP-16; ki_fp_filters: MSOP*3x4mm*P0.5mm*; Footprint: Package_SO:MSOP-16-1EP_3x4mm_P0.5mm_EP1.65x2.85mm; Supplier: https://www.analog.com/media/en/technical-documentation/data-sheets/375612fb.pdf
footprint MSOP-16-1EP_3x4mm_P0.5mm_EP1.65x2.85mm
pins: 1 PWMOUT (out), 2 FB (in), 3 ISN (in), 4 ISP (in), 5 VC (out), 6 CTRL (in), 7 VREF (out), 8 PWM (in), 9 ~{{OPENLED}} (oc), 10 SS (in), 11 RT (in), 12 ~{{SHDN}/UVLO} (in), 13 INTVCC (power), 14 VIN (power), 15 SENSE (in), 16 GATE (out), 17 GND (power)

## LT3756xMSE-1
designator *  value LT3756xMSE-1
ki_keywords: Boost Buck Buck-Boost SEPIC Flyback; ki_description: 100 Vin, 100 Vout, DC/DC LED Controllers, Frequency Synchronisation, MSOP-16; ki_fp_filters: MSOP*3x4mm*P0.5mm*; Footprint: Package_SO:MSOP-16-1EP_3x4mm_P0.5mm_EP1.65x2.85mm; Supplier: https://www.analog.com/media/en/technical-documentation/data-sheets/375612fb.pdf
footprint MSOP-16-1EP_3x4mm_P0.5mm_EP1.65x2.85mm
pins: 1 PWMOUT (out), 2 FB (in), 3 ISN (in), 4 ISP (in), 5 VC (out), 6 CTRL (in), 7 VREF (out), 8 PWM (in), 9 SYNC (in), 10 SS (in), 11 RT (in), 12 ~{{SHDN}/UVLO} (in), 13 INTVCC (power), 14 VIN (power), 15 SENSE (in), 16 GATE (out), 17 GND (power)

## LT3756xMSE-2
designator *  value LT3756xMSE-2
ki_keywords: Boost Buck Buck-Boost SEPIC Flyback; ki_description: 100 Vin, 100 Vout, DC/DC LED Controllers, Improved Open Led Status Pin, MSOP-16; ki_fp_filters: MSOP*3x4mm*P0.5mm*; Footprint: Package_SO:MSOP-16-1EP_3x4mm_P0.5mm_EP1.65x2.85mm; Supplier: https://www.analog.com/media/en/technical-documentation/data-sheets/375612fb.pdf
footprint MSOP-16-1EP_3x4mm_P0.5mm_EP1.65x2.85mm
pins: 1 PWMOUT (out), 2 FB (in), 3 ISN (in), 4 ISP (in), 5 VC (out), 6 CTRL (in), 7 VREF (out), 8 PWM (in), 9 ~{{OPENLED}} (oc), 10 SS (in), 11 RT (in), 12 ~{{SHDN}/UVLO} (in), 13 INTVCC (power), 14 VIN (power), 15 SENSE (in), 16 GATE (out), 17 GND (power)

## LT3756xUD
designator *  value LT3756xUD
ki_keywords: Boost Buck Buck-Boost SEPIC Flyback; ki_description: 100 Vin, 100 Vout, DC/DC LED Controller, Hysteresis Open led Status pins, QFN-16; ki_fp_filters: QFN*1EP*3x3mm*P0.5mm*; Footprint: Package_DFN_QFN:QFN-16-1EP_3x3mm_P0.5mm_EP1.45x1.45mm; Supplier: https://www.analog.com/media/en/technical-documentation/data-sheets/375612fb.pdf
footprint QFN-16-1EP_3x3mm_P0.5mm_EP1.45x1.45mm
pins: 1 VREF (out), 2 PWM (in), 3 ~{{OPENLED}} (in), 4 SS (in), 5 RT (in), 6 ~{{SHDN}/UVLO} (in), 7 INTVCC (power), 8 VIN (power), 9 SENSE (in), 10 GATE (out), 11 PWMOUT (out), 12 FB (in), 13 ISN (in), 14 ISP (in), 15 VC (out), 16 CTRL (in), 17 GND (power)

## LT3756xUD-1
designator *  value LT3756xUD-1
ki_keywords: Boost Buck Buck-Boost SEPIC Flyback; ki_description: 100 Vin, 100 Vout, DC/DC LED Controllers, Frequency Synchronisation, QFN-16; ki_fp_filters: QFN*1EP*3x3mm*P0.5mm*; Footprint: Package_DFN_QFN:QFN-16-1EP_3x3mm_P0.5mm_EP1.45x1.45mm; Supplier: https://www.analog.com/media/en/technical-documentation/data-sheets/375612fb.pdf
footprint QFN-16-1EP_3x3mm_P0.5mm_EP1.45x1.45mm
pins: 1 VREF (out), 2 PWM (in), 3 SYNC (in), 4 SS (in), 5 RT (in), 6 SHDN/UVLO (in), 7 INTVCC (power), 8 VIN (power), 9 SENSE (in), 10 GATE (out), 11 PWMOUT (out), 12 FB (in), 13 ISN (in), 14 ISP (in), 15 VC (out), 16 CTRL (in), 17 GND (power)

## LT3756xUD-2
designator *  value LT3756xUD-2
ki_keywords: Boost Buck Buck-Boost SEPIC Flyback; ki_description: 100 Vin, 100 Vout, DC/DC LED Controllers, Improved Open led Status pin, QFN-16; ki_fp_filters: QFN*1EP*3x3mm*P0.5mm*; Footprint: Package_DFN_QFN:QFN-16-1EP_3x3mm_P0.5mm_EP1.45x1.45mm; Supplier: https://www.analog.com/media/en/technical-documentation/data-sheets/375612fb.pdf
footprint QFN-16-1EP_3x3mm_P0.5mm_EP1.45x1.45mm
pins: 1 VREF (out), 2 PWM (in), 3 ~{{OPENLED}} (in), 4 SS (in), 5 RT (in), 6 ~{{SHDN}/UVLO} (in), 7 INTVCC (power), 8 VIN (power), 9 SENSE (in), 10 GATE (out), 11 PWMOUT (out), 12 FB (in), 13 ISN (in), 14 ISP (in), 15 VC (out), 16 CTRL (in), 17 GND (power)

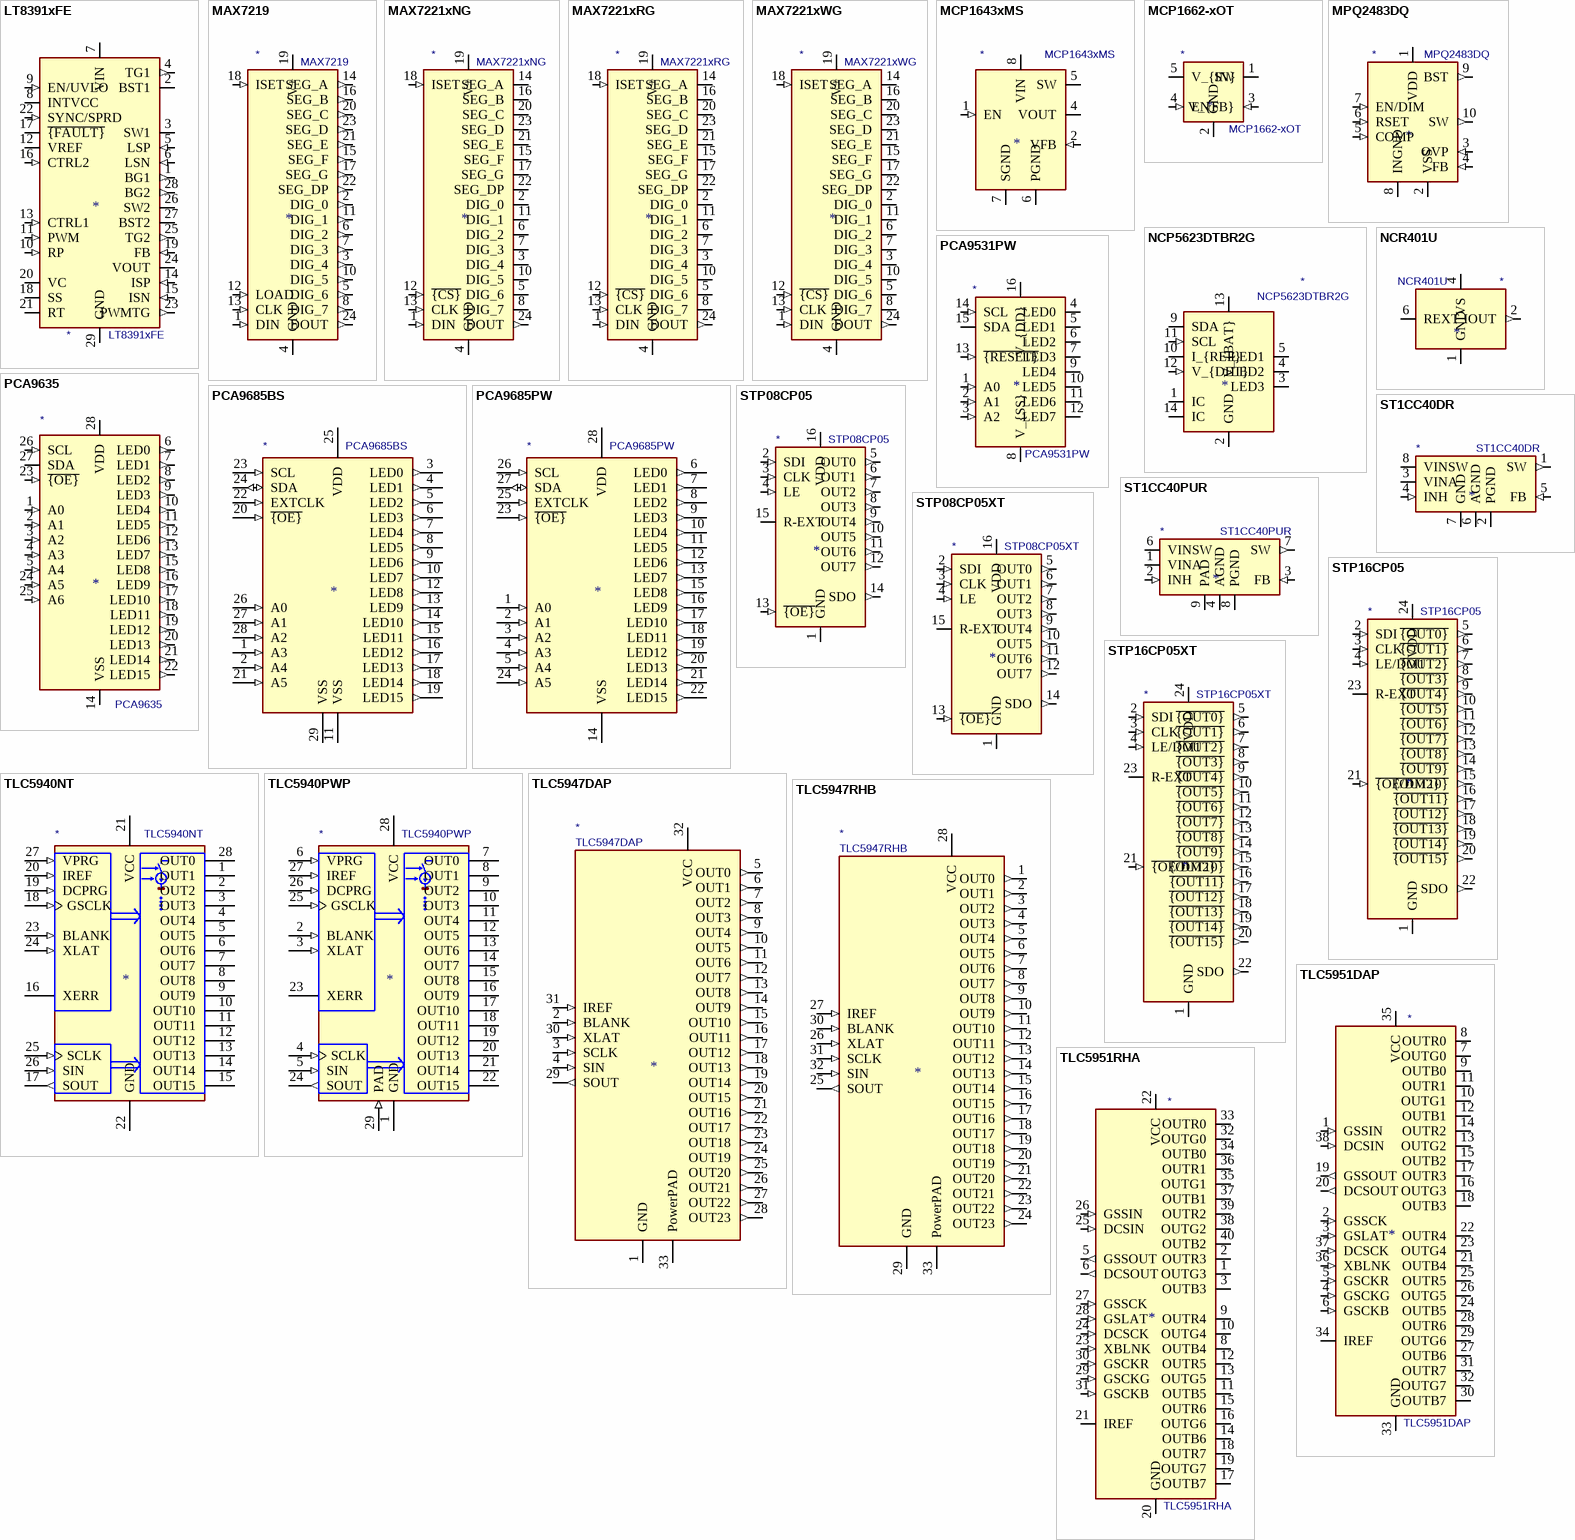
[diagram p2: symbols LT8391xFE to TLC5951RHA]

## LT8391xFE
designator *  value LT8391xFE
ki_keywords: 60V Synchronous 4-Switch Buck-Boost LED Controller; ki_description: 60V Synchronous 4-Switch Buck-Boost LED Controller, TSSOP-28; ki_fp_filters: TSSOP*1EP*4.4x9.7mm*P0.65mm*; Footprint: Package_SO:TSSOP-28-1EP_4.4x9.7mm_P0.65mm; Supplier: https://www.analog.com/media/en/technical-documentation/data-sheets/lt8391.pdf
footprint TSSOP-28-1EP_4.4x9.7mm_P0.65mm
pins: 1 BG1 (out), 2 BST1, 3 SW1, 4 TG1 (out), 5 LSP (in), 6 LSN (in), 7 VIN (power), 8 INTVCC (power), 9 EN/UVLO (in), 10 RP (in), 11 PWM (in), 12 VREF (power), 13 CTRL1 (in), 14 ISP (in), 15 ISN (in), 16 CTRL2 (in), 17 ~{{FAULT}} (oc), 18 SS, 19 FB (in), 20 VC, 21 RT, 22 SYNC/SPRD (in), 23 PWMTG (out), 24 VOUT (power), 25 TG2 (out), 26 SW2, 27 BST2, 28 BG2 (out), 29 GND (power)

## MAX7219
designator *  value MAX7219
ki_keywords: LED 8-Digit Display Driver; ki_description: 8-Digit LED Display Driver; ki_fp_filters: SOIC*7.5x15.4mm*P1.27mm* DIP*7.62mm*; Supplier: https://datasheets.maximintegrated.com/en/ds/MAX7219-MAX7221.pdf
pins: 1 DIN (in), 2 DIG_0 (out), 3 DIG_4 (out), 4 GND (power), 5 DIG_6 (out), 6 DIG_2 (out), 7 DIG_3 (out), 8 DIG_7 (out), 9 GND hidden, 10 DIG_5 (out), 11 DIG_1 (out), 12 LOAD (in), 13 CLK (in), 14 SEG_A (out), 15 SEG_F (out), 16 SEG_B (out), 17 SEG_G (out), 18 ISET (in), 19 V+ (power), 20 SEG_C (out), 21 SEG_E (out), 22 SEG_DP (out), 23 SEG_D (out), 24 DOUT (out)

## MAX7221xNG
designator *  value MAX7221xNG
ki_keywords: spi qspi microwire; ki_description: Serially Interfaced, 8-Digit LED Display Driver, PDIP-24; ki_fp_filters: DIP*W7.62mm*; Footprint: Package_DIP:DIP-24_W7.62mm; Supplier: https://datasheets.maximintegrated.com/en/ds/MAX7219-MAX7221.pdf
footprint DIP-24_W7.62mm
pins: 1 DIN (in), 2 DIG_0 (oc), 3 DIG_4 (oc), 4 GND (power), 5 DIG_6 (oc), 6 DIG_2 (oc), 7 DIG_3 (oc), 8 DIG_7 (oc), 9 GND hidden, 10 DIG_5 (oc), 11 DIG_1 (oc), 12 ~{{CS}} (in), 13 CLK (in), 14 SEG_A (oe), 15 SEG_F (oe), 16 SEG_B (oe), 17 SEG_G (oe), 18 ISET (in), 19 V+ (power), 20 SEG_C (oe), 21 SEG_E (oe), 22 SEG_DP (oe), 23 SEG_D (oe), 24 DOUT (out)

## MAX7221xRG
designator *  value MAX7221xRG
ki_keywords: spi qspi microwire; ki_description: Serially Interfaced, 8-Digit LED Display Driver, CDIP-24; ki_fp_filters: DIP*W7.62mm*; Footprint: Package_DIP:DIP-24_W7.62mm; Supplier: https://datasheets.maximintegrated.com/en/ds/MAX7219-MAX7221.pdf
footprint DIP-24_W7.62mm
pins: 1 DIN (in), 2 DIG_0 (oc), 3 DIG_4 (oc), 4 GND (power), 5 DIG_6 (oc), 6 DIG_2 (oc), 7 DIG_3 (oc), 8 DIG_7 (oc), 9 GND hidden, 10 DIG_5 (oc), 11 DIG_1 (oc), 12 ~{{CS}} (in), 13 CLK (in), 14 SEG_A (oe), 15 SEG_F (oe), 16 SEG_B (oe), 17 SEG_G (oe), 18 ISET (in), 19 V+ (power), 20 SEG_C (oe), 21 SEG_E (oe), 22 SEG_DP (oe), 23 SEG_D (oe), 24 DOUT (out)

## MAX7221xWG
designator *  value MAX7221xWG
ki_keywords: spi qspi microwire; ki_description: Serially Interfaced, 8-Digit LED Display Driver, SOIC-24W; ki_fp_filters: SOIC*7.5x15.4mm*P1.27mm*; Footprint: Package_SO:SOIC-24W_7.5x15.4mm_P1.27mm; Supplier: https://datasheets.maximintegrated.com/en/ds/MAX7219-MAX7221.pdf
footprint SOIC-24W_7.5x15.4mm_P1.27mm
pins: 1 DIN (in), 2 DIG_0 (oc), 3 DIG_4 (oc), 4 GND (power), 5 DIG_6 (oc), 6 DIG_2 (oc), 7 DIG_3 (oc), 8 DIG_7 (oc), 9 GND hidden, 10 DIG_5 (oc), 11 DIG_1 (oc), 12 ~{{CS}} (in), 13 CLK (in), 14 SEG_A (oe), 15 SEG_F (oe), 16 SEG_B (oe), 17 SEG_G (oe), 18 ISET (in), 19 V+ (power), 20 SEG_C (oe), 21 SEG_E (oe), 22 SEG_DP (oe), 23 SEG_D (oe), 24 DOUT (out)

## MCP1643xMS
designator *  value MCP1643xMS
ki_keywords: LED driver low voltage; ki_description: Constant-current LED boost regulator, 0.65V startup, 550mA output, MSOP-8; ki_fp_filters: MSOP*3x3mm*P0.65mm*; Footprint: Package_SO:MSOP-8_3x3mm_P0.65mm; Supplier: https://ww1.microchip.com/downloads/en/DeviceDoc/20005208A.pdf
footprint MSOP-8_3x3mm_P0.65mm
pins: 1 EN (in), 2 VFB (in), 3 NC (in) hidden, 4 VOUT (power), 5 SW, 6 PGND (power), 7 SGND (power), 8 VIN (power)

## MCP1662-xOT
designator *  value MCP1662-xOT
ki_keywords: step-up led driver uvlo; ki_description: Step-Up LED Driver w/ UVLO and Open Load Protection, 500kHz, SOT-23-5; ki_fp_filters: SOT?23*; Footprint: Package_TO_SOT_SMD:SOT-23-5; Supplier: https://ww1.microchip.com/downloads/en/DeviceDoc/20005316E.pdf
footprint SOT-23-5
pins: 1 SW (power), 2 GND (power), 3 V_{FB} (in), 4 EN (in), 5 V_{IN} (power)

## MPQ2483DQ
designator *  value MPQ2483DQ
ki_keywords: LED driver; ki_description: 55V, 2.5A Programmable Frequency LED Driver, DFN-10; ki_fp_filters: DFN*1EP*3x3mm*P0.5mm*; Footprint: Package_DFN_QFN:DFN-10-1EP_3x3mm_P0.5mm_EP1.7x2.5mm; Supplier: https://www.monolithicpower.com/pub/media/document/MPQ2483_r1.05.pdf
footprint DFN-10-1EP_3x3mm_P0.5mm_EP1.7x2.5mm
pins: 1 VDD (power), 2 VSS (power), 3 OVP (in), 4 FB (in), 5 COMP (in), 6 RSET (in), 7 EN/DIM (in), 8 INGND (power), 9 BST (out), 10 SW (out), 11 VSS hidden

## NCP5623DTBR2G
designator *  value NCP5623DTBR2G
ki_keywords: LED RGB; ki_description: Triple Output I2C Controlled RGB LED Driver, TSSOP-14; ki_fp_filters: TSSOP*4.4x5mm*P0.65mm*; Footprint: Package_SO:TSSOP-14_4.4x5mm_P0.65mm; Supplier: https://www.onsemi.com/pub/Collateral/NCP5623-D.PDF
footprint TSSOP-14_4.4x5mm_P0.65mm
pins: 1 IC, 2 GND (power), 3 LED3 (oc), 4 LED2 (oc), 5 LED1 (oc), 6 GND hidden, 7 NC (in) hidden, 8 NC (in) hidden, 9 SDA (io), 10 I_{REF}, 11 SCL (in), 12 V_{DET} (in), 13 V_{BAT} (power), 14 IC

## NCR401U
designator *  value NCR401U
ki_keywords: LED driver constant current; ki_description: 10mA (with external R up to 65mA) constant current driver (linear), max 40V, SOT457 (SC-74); ki_fp_filters: SC?74*1.5x2.9mm?P0.95*; Footprint: Package_SO:SC-74-6_1.5x2.9mm_P0.95mm; Supplier: https://assets.nexperia.com/documents/data-sheet/NCR401U.pdf
footprint SC-74-6_1.5x2.9mm_P0.95mm
pins: 1 GND (power), 2 IOUT (out), 3 IOUT hidden, 4 VS (power), 5 IOUT hidden, 6 REXT

## PCA9531PW
designator *  value PCA9531PW
ki_keywords: led pwm rgb smbus; ki_description: 8-bit PWM I2C eight LED driver, TSSOP-16; ki_fp_filters: TSSOP*4.4x5mm*P0.65mm*; Footprint: Package_SO:TSSOP-16_4.4x5mm_P0.65mm; Supplier: https://www.nxp.com/docs/en/data-sheet/PCA9531.pdf
footprint TSSOP-16_4.4x5mm_P0.65mm
pins: 1 A0 (in), 2 A1 (in), 3 A2 (in), 4 LED0 (oc), 5 LED1 (oc), 6 LED2 (oc), 7 LED3 (oc), 8 V_{SS} (power), 9 LED4 (oc), 10 LED5 (oc), 11 LED6 (oc), 12 LED7 (oc), 13 ~{{RESET}} (in), 14 SCL (in), 15 SDA (io), 16 V_{DD} (power)

## PCA9635
designator *  value PCA9635
ki_keywords: led pwm rgb rgba; ki_description: 16-bit PWM Fm+ I2C-bus LED driver, TSSOP-28; ki_fp_filters: TSSOP*4.4x9.7mm*P0.65mm*; Footprint: Package_SO:TSSOP-28_4.4x9.7mm_P0.65mm; Supplier: https://www.nxp.com/docs/en/data-sheet/PCA9635.pdf
footprint TSSOP-28_4.4x9.7mm_P0.65mm
pins: 1 A0 (in), 2 A1 (in), 3 A2 (in), 4 A3 (in), 5 A4 (in), 6 LED0 (out), 7 LED1 (out), 8 LED2 (out), 9 LED3 (out), 10 LED4 (out), 11 LED5 (out), 12 LED6 (out), 13 LED7 (out), 14 VSS (power), 15 LED8 (out), 16 LED9 (out), 17 LED10 (out), 18 LED11 (out), 19 LED12 (out), 20 LED13 (out), 21 LED14 (out), 22 LED15 (out), 23 ~{{OE}} (in), 24 A5 (in), 25 A6 (in), 26 SCL (in), 27 SDA (io), 28 VDD (power)

## PCA9685BS
designator *  value PCA9685BS
ki_keywords: PWM LED driver I2C QFN; ki_description: 16-channel 12-bit PWM Fm+ I2C-bus LED controller RGBA QFN; ki_fp_filters: QFN*1EP*6x6mm*P0.65mm*; Footprint: Package_DFN_QFN:QFN-28-1EP_6x6mm_P0.65mm_EP4.25x4.25mm; Supplier: http://www.nxp.com/documents/data_sheet/PCA9685.pdf
footprint QFN-28-1EP_6x6mm_P0.65mm_EP4.25x4.25mm
pins: 1 A3 (in), 2 A4 (in), 3 LED0 (out), 4 LED1 (out), 5 LED2 (out), 6 LED3 (out), 7 LED4 (out), 8 LED5 (out), 9 LED6 (out), 10 LED7 (out), 11 VSS (power), 12 LED8 (out), 13 LED9 (out), 14 LED10 (out), 15 LED11 (out), 16 LED12 (out), 17 LED13 (out), 18 LED14 (out), 19 LED15 (out), 20 ~{{OE}} (in), 21 A5 (in), 22 EXTCLK (in), 23 SCL (in), 24 SDA (io), 25 VDD (power), 26 A0 (in), 27 A1 (in), 28 A2 (in), 29 VSS (power)

## PCA9685PW
designator *  value PCA9685PW
ki_keywords: PWM LED driver I2C TSSOP; ki_description: 16-channel 12-bit PWM Fm+ I2C-bus LED controller RGBA TSSOP; ki_fp_filters: TSSOP*4.4x9.7mm*P0.65mm*; Footprint: Package_SO:TSSOP-28_4.4x9.7mm_P0.65mm; Supplier: http://www.nxp.com/documents/data_sheet/PCA9685.pdf
footprint TSSOP-28_4.4x9.7mm_P0.65mm
pins: 1 A0 (in), 2 A1 (in), 3 A2 (in), 4 A3 (in), 5 A4 (in), 6 LED0 (out), 7 LED1 (out), 8 LED2 (out), 9 LED3 (out), 10 LED4 (out), 11 LED5 (out), 12 LED6 (out), 13 LED7 (out), 14 VSS (power), 15 LED8 (out), 16 LED9 (out), 17 LED10 (out), 18 LED11 (out), 19 LED12 (out), 20 LED13 (out), 21 LED14 (out), 22 LED15 (out), 23 ~{{OE}} (in), 24 A5 (in), 25 EXTCLK (in), 26 SCL (in), 27 SDA (io), 28 VDD (power)

## ST1CC40DR
designator *  value ST1CC40DR
ki_keywords: DC/DC Buck Conwerter 3A Low Voltage Input LED Lighting; ki_description: 3A monolithic step-down current source with synchronous rectification, 3-18V Input Voltage, 850kHz, SO-8; ki_fp_filters: SOIC*3.9x4.9mm*P1.27mm*; Footprint: Package_SO:SOIC-8_3.9x4.9mm_P1.27mm; Supplier: http://www.st.com/content/ccc/resource/technical/document/datasheet/group3/71/e8/26/3c/c8/cc/46/e6/CD00292360/files/CD00292360.pdf/jcr:content/translations/en.CD00292360.pdf
footprint SOIC-8_3.9x4.9mm_P1.27mm
pins: 1 SW (out), 2 PGND (power), 3 VINA (power), 4 INH (in), 5 FB (in), 6 AGND (power), 7 GND (power), 8 VINSW (power)

## ST1CC40PUR
designator *  value ST1CC40PUR
ki_keywords: DC/DC Buck Conwerter 3A Low Voltage Input LED Lighting; ki_description: 3A monolithic step-down current source with synchronous rectification, 3-18V Input Voltage, 850kHz, DFN-8; ki_fp_filters: DFN*1EP*4x4mm*P0.8mm*; Footprint: Package_DFN_QFN:DFN-8-1EP_4x4mm_P0.8mm_EP2.5x3.6mm; Supplier: http://www.st.com/content/ccc/resource/technical/document/datasheet/group3/71/e8/26/3c/c8/cc/46/e6/CD00292360/files/CD00292360.pdf/jcr:content/translations/en.CD00292360.pdf
footprint DFN-8-1EP_4x4mm_P0.8mm_EP2.5x3.6mm
pins: 1 VINA (power), 2 INH (in), 3 FB (in), 4 AGND (power), 5 NC (in) hidden, 6 VINSW (power), 7 SW (out), 8 PGND (power), 9 PAD

## STP08CP05
designator *  value STP08CP05
ki_keywords: Shift Register LED driver 8 bit; ki_description: 8-bit constant current LED sink driver; ki_fp_filters: SOIC*3.9x9.9mm*P1.27mm* TSSOP*4.4x5mm*P0.65mm* DIP*W7.62mm*; Supplier: https://www.st.com/resource/en/datasheet/stp08cp05.pdf
pins: 1 GND (power), 2 SDI (in), 3 CLK (in), 4 LE (in), 5 OUT0 (out), 6 OUT1 (out), 7 OUT2 (out), 8 OUT3 (out), 9 OUT4 (out), 10 OUT5 (out), 11 OUT6 (out), 12 OUT7 (out), 13 ~{{OE}} (in), 14 SDO (out), 15 R-EXT, 16 VDD (power)

## STP08CP05XT
designator *  value STP08CP05XT
ki_keywords: Shift Register LED driver 8 bit; ki_description: 8-bit constant current LED sink driver, HTSSOP-16; ki_fp_filters: HTSSOP*1EP*4.4x5mm*P0.65mm*; Footprint: Package_SO:HTSSOP-16-1EP_4.4x5mm_P0.65mm_EP3x3mm; Supplier: https://www.st.com/resource/en/datasheet/stp08cp05.pdf
footprint HTSSOP-16-1EP_4.4x5mm_P0.65mm_EP3x3mm
pins: 1 GND (power), 2 SDI (in), 3 CLK (in), 4 LE (in), 5 OUT0 (out), 6 OUT1 (out), 7 OUT2 (out), 8 OUT3 (out), 9 OUT4 (out), 10 OUT5 (out), 11 OUT6 (out), 12 OUT7 (out), 13 ~{{OE}} (in), 14 SDO (out), 15 R-EXT, 16 VDD (power), 17 GND hidden

## STP16CP05
designator *  value STP16CP05
ki_keywords: Shift Register LED driver 16 bit; ki_description: 16-bit constant current LED sink driver; ki_fp_filters: QSOP*3.9x8.7mm*P0.635mm* SOIC*7.5x15.4mm*P1.27mm* TSSOP*4.4x7.8mm*P0.65mm*; Supplier: https://www.st.com/resource/en/datasheet/stp16cp05.pdf
pins: 1 GND (power), 2 SDI (in), 3 CLK (in), 4 LE/DM1 (in), 5 ~{{OUT0}} (out), 6 ~{{OUT1}} (out), 7 ~{{OUT2}} (out), 8 ~{{OUT3}} (out), 9 ~{{OUT4}} (out), 10 ~{{OUT5}} (out), 11 ~{{OUT6}} (out), 12 ~{{OUT7}} (out), 13 ~{{OUT8}} (out), 14 ~{{OUT9}} (out), 15 ~{{OUT10}} (out), 16 ~{{OUT11}} (out), 17 ~{{OUT12}} (out), 18 ~{{OUT13}} (out), 19 ~{{OUT14}} (out), 20 ~{{OUT15}} (out), 21 ~{{OE/DM2}} (in), 22 SDO (out), 23 R-EXT, 24 VDD (power)

## STP16CP05XT
designator *  value STP16CP05XT
ki_keywords: Shift Register LED driver 16 bit; ki_description: 16-bit constant current LED sink driver, HTSSOP-24; ki_fp_filters: HTSSOP*1EP*4.4x7.8mm*P0.65mm*; Footprint: Package_SO:HTSSOP-24-1EP_4.4x7.8mm_P0.65mm_EP3.2x5mm; Supplier: https://www.st.com/resource/en/datasheet/stp16cp05.pdf
footprint HTSSOP-24-1EP_4.4x7.8mm_P0.65mm_EP3.2x5mm
pins: 1 GND (power), 2 SDI (in), 3 CLK (in), 4 LE/DM1 (in), 5 ~{{OUT0}} (out), 6 ~{{OUT1}} (out), 7 ~{{OUT2}} (out), 8 ~{{OUT3}} (out), 9 ~{{OUT4}} (out), 10 ~{{OUT5}} (out), 11 ~{{OUT6}} (out), 12 ~{{OUT7}} (out), 13 ~{{OUT8}} (out), 14 ~{{OUT9}} (out), 15 ~{{OUT10}} (out), 16 ~{{OUT11}} (out), 17 ~{{OUT12}} (out), 18 ~{{OUT13}} (out), 19 ~{{OUT14}} (out), 20 ~{{OUT15}} (out), 21 ~{{OE/DM2}} (in), 22 SDO (out), 23 R-EXT, 24 VDD (power), 25 GND hidden

## TLC5940NT
designator *  value TLC5940NT
ki_keywords: PWM LED driver; ki_description: 16-Channel LED Driver With DOT Correction and Grayscale PWM Control, DIP package; ki_fp_filters: DIP*W7.62mm*; Footprint: Package_DIP:DIP-28_W7.62mm; Supplier: http://www.ti.com/lit/ds/symlink/tlc5940.pdf
footprint DIP-28_W7.62mm
pins: 1 OUT1 (oc), 2 OUT2 (oc), 3 OUT3 (oc), 4 OUT4 (oc), 5 OUT5 (oc), 6 OUT6 (oc), 7 OUT7 (oc), 8 OUT8 (oc), 9 OUT9 (oc), 10 OUT10 (oc), 11 OUT11 (oc), 12 OUT12 (oc), 13 OUT13 (oc), 14 OUT14 (oc), 15 OUT15 (oc), 16 XERR (oc), 17 SOUT (out), 18 GSCLK (in), 19 DCPRG (in), 20 IREF (in), 21 VCC (power), 22 GND (power), 23 BLANK (in), 24 XLAT (in), 25 SCLK (in), 26 SIN (in), 27 VPRG (in), 28 OUT0 (oc)

## TLC5940PWP
designator *  value TLC5940PWP
ki_keywords: PWM LED driver; ki_description: 16-Channel LED Driver With DOT Correction and Grayscale PWM Control, TSSOP package with thermal pad; ki_fp_filters: HTSSOP*4.4x9.7mm*P0.65mm*; Footprint: Package_SO:HTSSOP-28-1EP_4.4x9.7mm_P0.65mm_EP3.4x9.5mm_Mask2.4x6.17mm_ThermalVias; Supplier: http://www.ti.com/lit/ds/symlink/tlc5940.pdf
footprint HTSSOP-28-1EP_4.4x9.7mm_P0.65mm_EP3.4x9.5mm_Mask2.4x6.17mm_ThermalVias
pins: 1 GND (power), 2 BLANK (in), 3 XLAT (in), 4 SCLK (in), 5 SIN (in), 6 VPRG (in), 7 OUT0 (oc), 8 OUT1 (oc), 9 OUT2 (oc), 10 OUT3 (oc), 11 OUT4 (oc), 12 OUT5 (oc), 13 OUT6 (oc), 14 OUT7 (oc), 15 OUT8 (oc), 16 OUT9 (oc), 17 OUT10 (oc), 18 OUT11 (oc), 19 OUT12 (oc), 20 OUT13 (oc), 21 OUT14 (oc), 22 OUT15 (oc), 23 XERR (oc), 24 SOUT (out), 25 GSCLK (in), 26 DCPRG (in), 27 IREF (in), 28 VCC (power), 29 PAD (in)

## TLC5947DAP
designator *  value TLC5947DAP
ki_keywords: PWM LED driver HTSSOP; ki_description: 24-Channel, 12-Bit PWM LED Driver, HTSSOP; ki_fp_filters: HTSSOP*; Footprint: Package_SO:HTSSOP-32-1EP_6.1x11mm_P0.65mm_EP5.2x11mm_Mask4.11x4.36mm_ThermalVias; Supplier: http://www.ti.com/lit/ds/symlink/tlc5947.pdf
footprint HTSSOP-32-1EP_6.1x11mm_P0.65mm_EP5.2x11mm_Mask4.11x4.36mm_ThermalVias
pins: 1 GND (power), 2 BLANK (in), 3 SCLK (in), 4 SIN (in), 5 OUT0 (out), 6 OUT1 (out), 7 OUT2 (out), 8 OUT3 (out), 9 OUT4 (out), 10 OUT5 (out), 11 OUT6 (out), 12 OUT7 (out), 13 OUT8 (out), 14 OUT9 (out), 15 OUT10 (out), 16 OUT11 (out), 17 OUT12 (out), 18 OUT13 (out), 19 OUT14 (out), 20 OUT15 (out), 21 OUT16 (out), 22 OUT17 (out), 23 OUT18 (out), 24 OUT19 (out), 25 OUT20 (out), 26 OUT21 (out), 27 OUT22 (out), 28 OUT23 (out), 29 SOUT (out), 30 XLAT (in), 31 IREF (in), 32 VCC (power), 33 PowerPAD (power)

## TLC5947RHB
designator *  value TLC5947RHB
ki_keywords: PWM LED driver QFN; ki_description: 24-Channel, 12-Bit PWM LED Driver, QFN; ki_fp_filters: QFN*5x5mm*; Footprint: Package_DFN_QFN:QFN-32-1EP_5x5mm_P0.5mm_EP3.45x3.45mm; Supplier: http://www.ti.com/lit/ds/symlink/tlc5947.pdf
footprint QFN-32-1EP_5x5mm_P0.5mm_EP3.45x3.45mm
pins: 1 OUT0 (out), 2 OUT1 (out), 3 OUT2 (out), 4 OUT3 (out), 5 OUT4 (out), 6 OUT5 (out), 7 OUT6 (out), 8 OUT7 (out), 9 OUT8 (out), 10 OUT9 (out), 11 OUT10 (out), 12 OUT11 (out), 13 OUT12 (out), 14 OUT13 (out), 15 OUT14 (out), 16 OUT15 (out), 17 OUT16 (out), 18 OUT17 (out), 19 OUT18 (out), 20 OUT19 (out), 21 OUT20 (out), 22 OUT21 (out), 23 OUT22 (out), 24 OUT23 (out), 25 SOUT (out), 26 XLAT (in), 27 IREF (in), 28 VCC (power), 29 GND (power), 30 BLANK (in), 31 SCLK (in), 32 SIN (in), 33 PowerPAD (power)

## TLC5951DAP
designator *  value TLC5951DAP
ki_keywords: led driver; ki_description: 24-Channel, 12-Bit PWM LED Driver With 7-Bit Dot Correction and 3-Group, 8-Bit Global Brightness Control, HTSSOP-38; ki_fp_filters: HTSSOP*1EP*6.1x12.5mm*P0.65mm*; Footprint: Package_SO:HTSSOP-38-1EP_6.1x12.5mm_P0.65mm_EP5.2x12.5mm_Mask3.39x6.35mm_ThermalVias; Supplier: http://www.ti.com/lit/ds/symlink/tlc5951.pdf
footprint HTSSOP-38-1EP_6.1x12.5mm_P0.65mm_EP5.2x12.5mm_Mask3.39x6.35mm_ThermalVias
pins: 1 GSSIN (in), 2 GSSCK (in), 3 GSLAT (in), 4 GSCKG (in), 5 GSCKR (in), 6 GSCKB (in), 7 OUTG0 (oc), 8 OUTR0 (oc), 9 OUTB0 (oc), 10 OUTG1 (oc), 11 OUTR1 (oc), 12 OUTB1 (oc), 13 OUTG2 (oc), 14 OUTR2 (oc), 15 OUTB2 (oc), 16 OUTG3 (oc), 17 OUTR3 (oc), 18 OUTB3 (oc), 19 GSSOUT (out), 20 DCSOUT (out), 21 OUTB4 (oc), 22 OUTR4 (oc), 23 OUTG4 (oc), 24 OUTB5 (oc), 25 OUTR5 (oc), 26 OUTG5 (oc), 27 OUTB6 (oc), 28 OUTR6 (oc), 29 OUTG6 (oc), 30 OUTB7 (oc), 31 OUTR7 (oc), 32 OUTG7 (oc), 33 GND (power), 34 IREF, 35 VCC (power), 36 XBLNK (in), 37 DCSCK (in), 38 DCSIN (in), 39 GND hidden